# Altium schematic symbol library Connectors.SchLib: 75 symbols (part 3 of 3)
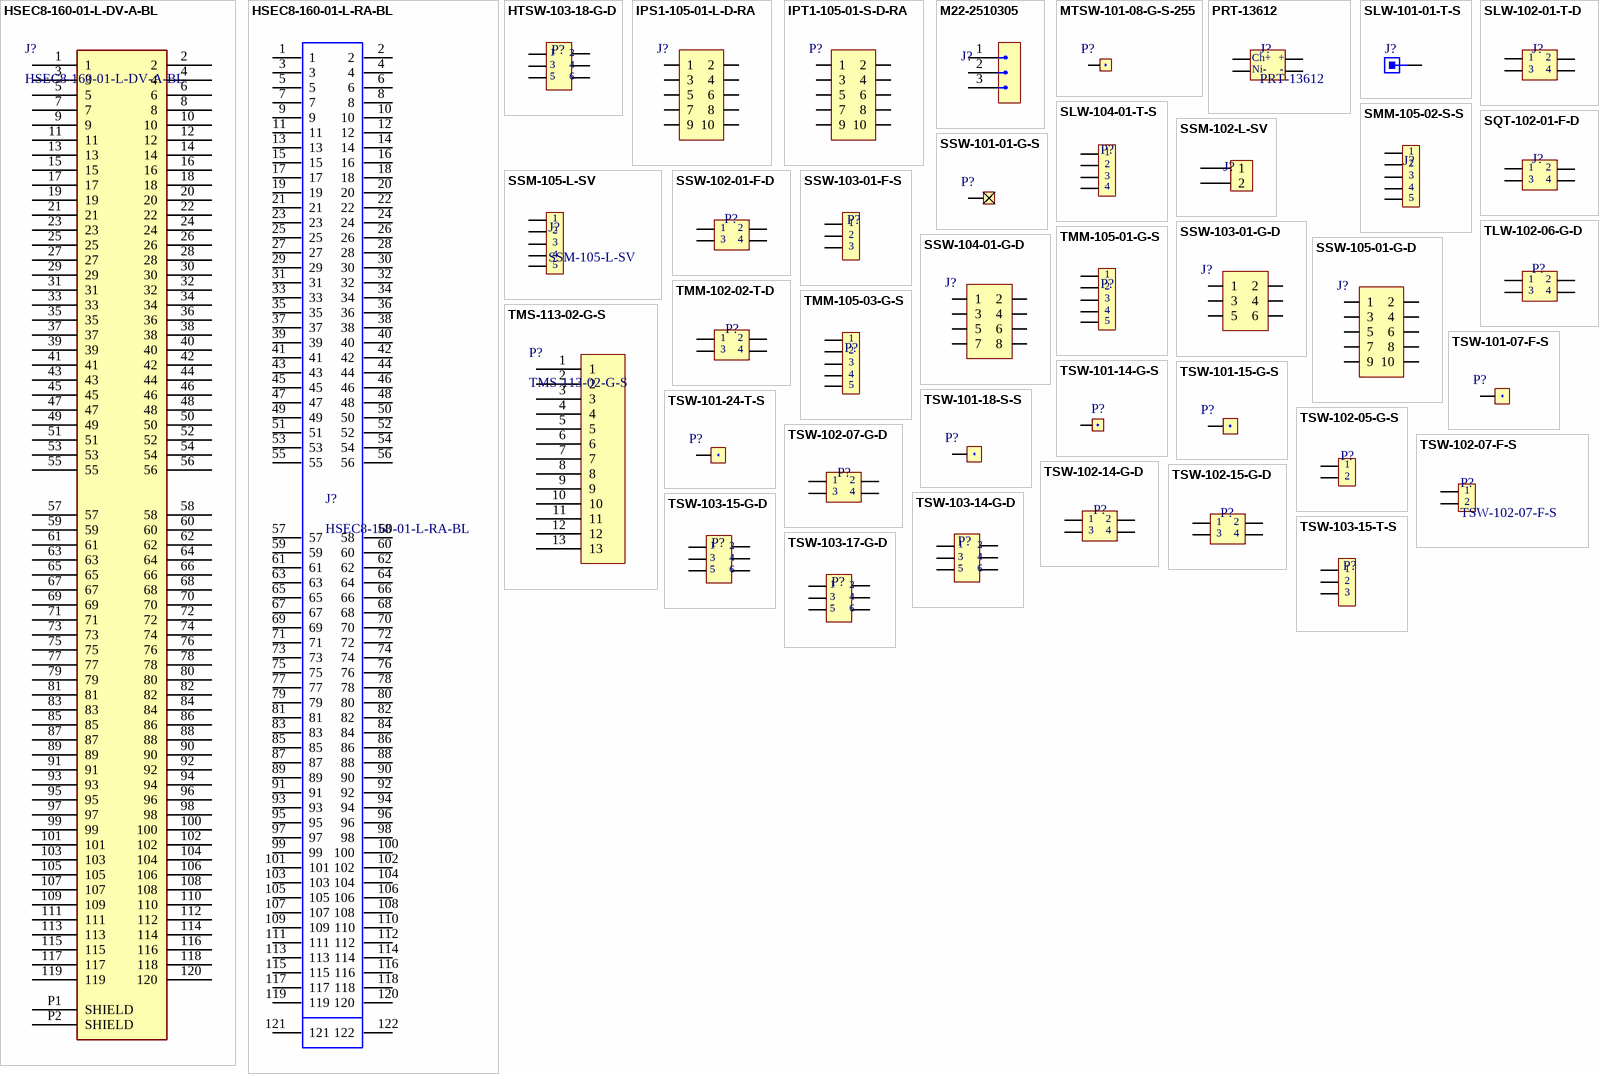
[diagram p4: symbols HSEC8-160-01-L-DV-A-BL to TSW-103-17-G-D]

## TSW-102-05-G-S
designator P?  (value not drawn)
Conn Unshrouded Header HDR 2 POS 2.54mm Solder ST Thru-Hole Automotive Bulk; Manufacturer: Samtec; Number of Contacts: 2; Gender: Male; Max Current Rating: 7.6A; Max Voltage Rating (AC): 550V; Connector Type: Male Pin; Supplier 1: Digi-Key; Manufacturer Part Number: TSW-102-05-G-S; RoHS: Yes; Category: Connectors; Stock 1: 277; Pricing 1: 1=0.28000, 10=0.26500, 25=0.22760, 50=0.19340, 100=0.18580, 250=0.16684, 500=0.15926 (USD); Mount: Through Hole; Contact Plating: Gold; Contact Material: Bronze; Housing Material: Polyester; Housing Color: Black; Color: Black; Min Operating Temperature: -55°C; Max Operating Temperature: 125°C; Number of Rows: 1; Termination: Solder; Packaging: Bulk; Orientation: Straight; Package Quantity: 1; Number of Positions: 2; Length: 5.08mm; Pitch: 2.54mm; Depth: 2.54mm; Contact Mating Length: 0.105inch; Width: 2.54mm; Radiation Hardening: No; Lead Free: Lead Free; REACH SVHC: No SVHC; ComponentLink1URL: http://components.arrow.com/part/dataview/0323_03819665?src-supplier=Arrow+Europe; ComponentLink1Description: http://components.arrow.com/part/dataview/0323_03819665?src-supplier=Arrow+Europe; ComponentLink2URL: http://components.arrow.com/part/dataview/2679278S8183086N1004?src-supplier=Arrow; ComponentLink2Description: http://components.arrow.com/part/dataview/2679278S8183086N1004?src-supplier=Arrow; ComponentLink3URL: http://www.farnell.com/datasheets/2571078.pdf?src-supplier=Farnell; ComponentLink3Description: http://www.farnell.com/datasheets/2571078.pdf?src-supplier=Farnell; ComponentLink4URL: http://www.farnell.com/datasheets/1992055.pdf?src-supplier=Farnell; ComponentLink4Description: http://www.farnell.com/datasheets/1992055.pdf?src-supplier=Farnell; ComponentLink5URL: http://www.samtec.com/ftppub/pdf/htsw_th.pdf?src-supplier=Avnet; ComponentLink5Description: http://www.samtec.com/ftppub/pdf/htsw_th.pdf?src-supplier=Avnet; ComponentLink6URL: http://suddendocs.samtec.com/prints/tsw-xxx-xx-x-x-xx-xxx-footprint.pdf?src-supplier=Digi-Key; ComponentLink6Description: http://suddendocs.samtec.com/prints/tsw-xxx-xx-x-x-xx-xxx-footprint.pdf?src-supplier=Digi-Key; Supplier Part Number 1: SAM1013-02-ND; Supplier 2: Arrow; Stock 2: 61; Pricing 2: 1=0.27130, 10=0.17800, 100=0.14990, 1000=0.13740, 2500=0.13290, 10000=0.12880, 25000=0.12720, 50000=0.12520, 100000=0.12390, 1=0.25100, 12500=0.15970, 25000=0.11010, 125000=0.07830, 250000=0.05120 (USD); Supplier 3: Mouser; Stock 3: 1595; Pricing 3: 1=0.29000, 10=0.20100, 100=0.16500, 1000=0.13800, 2500=0.11800, 10000=0.10600 (USD); Supplier Part Number 2: TSW-102-05-G-S; Supplier Part Number 3: 200-TSW10205GS
footprint TSW-102-05-G-S
pins: 1, 2

## TSW-102-07-F-S
designator P?
Conn Unshrouded Header HDR 2 POS 2.54mm Solder ST Thru-Hole; Manufacturer: Samtec; Number of Contacts: 2; Gender: Male; Max Voltage Rating (AC): 550V; Connector Type: Male Pin; Max Current Rating: 7.6A; Manufacturer Part Number: TSW-102-07-F-S; RoHS: Yes; Category: Connectors; Stock 1: 10739; Pricing 1: 1=0,20000, 10=0,18800, 100=0,13000, 500=0,11000, 1000=0,09000, 5000=0,08000, 10000=0,07250 (USD); Mount: Through Hole; Contact Plating: Gold; Contact Material: Bronze; Housing Color: Black; Housing Material: Polyester; Color: Black; Min Operating Temperature: -55°C; Max Operating Temperature: 125°C; Number of Rows: 1; Termination: Solder; Packaging: Rail/Tube; Orientation: Straight; Number of Positions: 2; Package Quantity: 1; Length: 5.08mm; Pitch: 2.54mm; Contact Mating Length: 0.23inch; Depth: 2.54mm; Radiation Hardening: No; REACH SVHC: No SVHC; ComponentLink1URL: https://datasheet.ciiva.com/739/tsw-xxx-xx-xxx-x-xx-xxx-mkt-739881.pdf?src-supplier=Digi-Key; ComponentLink1Description: https://datasheet.ciiva.com/739/tsw-xxx-xx-xxx-x-xx-xxx-mkt-739881.pdf?src-supplier=Digi-Key; ComponentLink2URL: https://datasheet.ciiva.com/10281/htsw-th-10281262.pdf?src-supplier=Avnet; ComponentLink2Description: https://datasheet.ciiva.com/10281/htsw-th-10281262.pdf?src-supplier=Avnet; ComponentLink3URL: https://datasheet.ciiva.com/16734/htsw-th-16734219.pdf?src-supplier=Avnet+Europe; ComponentLink3Description: https://datasheet.ciiva.com/16734/htsw-th-16734219.pdf?src-supplier=Avnet+Europe; Supplier 1: Digi-Key; Supplier 2: Arrow; Supplier 3: Mouser; Supplier 4: Farnell; Supplier 5: Newark; Supplier Part Number 5: 79P3146; Supplier Part Number 4: 2779661; Supplier Part Number 3: 200-TSW10207FS; Supplier Part Number 2: TSW-102-07-F-S; Supplier Part Number 1: SAM10844-ND
footprint TSW-102-07-F-S (Conn Unshrouded Header HDR 2 POS 2.54mm Solder ST Thru-Hole)
pins: 1, 2

## TSW-102-07-G-D
designator P?  (value not drawn)
Conn Unshrouded Header HDR 4 POS 2.54mm Solder ST Thru-Hole; Manufacturer: Samtec; Number of Contacts: 4; Gender: Male; Max Current Rating: 7.6A; Max Voltage Rating (AC): 550V; Connector Type: Male Pin; Row Spacing: 0.1inch; Supplier 1: Digi-Key; Manufacturer Part Number: TSW-102-07-G-D; RoHS: Yes; Category: Connectors; Stock 1: 1333; Pricing 1: 1=0.43000, 10=0.40800, 25=0.36680, 50=0.32600, 100=0.31240, 250=0.28528, 500=0.27168 (USD); Mount: Through Hole; Contact Plating: Gold; Contact Material: Bronze; Housing Material: Polyester; Housing Color: Black; Color: Black; Min Operating Temperature: -55°C; Max Operating Temperature: 125°C; Number of Rows: 2; Packaging: Bulk; Termination: Solder; Orientation: Straight; Number of Positions: 4; Length: 5.08mm; Pitch: 2.54mm; Depth: 5.08mm; Contact Mating Length: 0.23inch; Width: 5.08mm; Radiation Hardening: No; Lead Free: Lead Free; REACH SVHC: No SVHC; ComponentLink1URL: https://datasheet.ciiva.com/6861/tsw-xxx-xx-xxx-x-xx-xxx-mkt-6861643.pdf?src-supplier=Digi-Key; ComponentLink1Description: https://datasheet.ciiva.com/6861/tsw-xxx-xx-xxx-x-xx-xxx-mkt-6861643.pdf?src-supplier=Digi-Key; ComponentLink2URL: https://datasheet.ciiva.com/36535/38htsw-th-36535307.pdf?src-supplier=Onlinecomponents.com; ComponentLink2Description: https://datasheet.ciiva.com/36535/38htsw-th-36535307.pdf?src-supplier=Onlinecomponents.com; ComponentLink3URL: https://datasheet.ciiva.com/9474/htsw-th-9474972.pdf?src-supplier=Avnet; ComponentLink3Description: https://datasheet.ciiva.com/9474/htsw-th-9474972.pdf?src-supplier=Avnet; Supplier Part Number 1: SAM1028-02-ND; Supplier 2: Mouser; Stock 2: 640; Pricing 2: 1=0.49000, 10=0.37400, 100=0.32700, 500=0.31200, 1000=0.25700, 2500=0.22600 (USD); Package Quantity: 1; ComponentLink4URL: https://datasheet.ciiva.com/737/htsw-xxx-xx-xxx-x-xx-xx-xx-mkt-737892.pdf?src-supplier=Digi-Key; ComponentLink4Description: https://datasheet.ciiva.com/737/htsw-xxx-xx-xxx-x-xx-xx-xx-mkt-737892.pdf?src-supplier=Digi-Key; ComponentLink5URL: https://datasheet.ciiva.com/16733/htsw-th-16733528.pdf?src-supplier=Avnet+Europe; ComponentLink5Description: https://datasheet.ciiva.com/16733/htsw-th-16733528.pdf?src-supplier=Avnet+Europe; ComponentLink6URL: https://datasheet.ciiva.com/10178/htsw-th-10178927.pdf?src-supplier=Avnet; ComponentLink6Description: https://datasheet.ciiva.com/10178/htsw-th-10178927.pdf?src-supplier=Avnet; Supplier 3: Avnet; Pricing 3: 1=0.48930, 10=0.29210, 30=0.28980, 50=0.28750, 100=0.28520 (USD); Supplier Part Number 2: 200-HTSW10207GD; Supplier Part Number 3: HTSW-102-07-G-D
footprint TSW-102-07-G-D
pins: 1, 2, 3, 4

## TSW-102-14-G-D
designator P?  (value not drawn)
Conn Unshrouded Header HDR 4 POS 2.54mm Solder ST Thru-Hole; Manufacturer: Samtec; Number of Contacts: 4; Gender: Male; Max Voltage Rating (AC): 550V; Max Current Rating: 7.6A; Connector Type: Male Pin; Row Spacing: 0.1inch; Supplier 1: Mouser; Manufacturer Part Number: TSW-102-14-G-D; RoHS: Yes; Category: Connectors; Stock 1: 3459; Pricing 1: 1=0.46000, 10=0.34700, 100=0.30400, 500=0.29000, 1000=0.23900, 2500=0.21000 (USD); Mount: Through Hole; Contact Plating: Gold; Contact Material: Bronze; Color: Black; Housing Material: Polyester; Housing Color: Black; Min Operating Temperature: -55°C; Max Operating Temperature: 125°C; Termination: Solder; Number of Rows: 2; Packaging: Bulk; Number of Positions: 4; Package Quantity: 1; Orientation: Straight; Length: 5.08mm; Pitch: 2.54mm; Contact Mating Length: 0.32inch; Depth: 5.08mm; Width: 5.08mm; Radiation Hardening: No; REACH SVHC: No SVHC; Lead Free: Lead Free; ComponentLink1URL: https://datasheet.ciiva.com/10189/htsw-th-10189928.pdf?src-supplier=Avnet; ComponentLink1Description: https://datasheet.ciiva.com/10189/htsw-th-10189928.pdf?src-supplier=Avnet; ComponentLink2URL: https://datasheet.ciiva.com/16728/htsw-th-16728329.pdf?src-supplier=Avnet+Europe; ComponentLink2Description: https://datasheet.ciiva.com/16728/htsw-th-16728329.pdf?src-supplier=Avnet+Europe; ComponentLink3URL: https://datasheet.ciiva.com/36535/38htsw-th-36535309.pdf?src-supplier=Onlinecomponents.com; ComponentLink3Description: https://datasheet.ciiva.com/36535/38htsw-th-36535309.pdf?src-supplier=Onlinecomponents.com; Supplier Part Number 1: 200-TSW10214GD; Supplier 2: Digi-Key; Stock 2: 3947; Pricing 2: 1=0.45000, 10=0.41800, 25=0.37600, 50=0.33400, 100=0.32020, 250=0.29232, 500=0.27840 (USD); Supplier 3: Arrow; Stock 3: 77; Pricing 3: 1=0.34480, 10=0.30040, 25=0.29740, 50=0.29130, 100=0.28280, 1=0.37300, 6250=0.24370, 12500=0.17680, 62500=0.15120, 125000=0.09940 (USD); Supplier Part Number 2: SAM1052-02-ND; Supplier Part Number 3: TSW-102-14-G-D
footprint TSW-102-14-G-D
pins: 1, 2, 3, 4

## TSW-102-15-G-D
designator P?  (value not drawn)
SAMTEC         TSW-102-15-G-D             Board-To-Board Connector, Vertical, TSW Series, 4 Contacts, Header, 2.54 mm, Through Hole, 2 Rows; Gender: Male; Number of Contacts: 4; Max Voltage Rating (AC): 550V; Max Current Rating: 7.6A; Pitch: 2.54mm; Supplier 1: Digi-Key; Manufacturer: Samtec; Manufacturer Part Number: TSW-102-15-G-D; RoHS: Yes; Category: Connectors; Stock 1: 148; Pricing 1: 1=0.52000, 10=0.48600, 100=0.37260, 500=0.32400, 1000=0.26730, 5000=0.23490, 10000=0.21870 (USD); Housing Material: Polyester; Housing Color: Black; Contact Plating: Gold; Contact Material: Bronze; Min Operating Temperature: -55°C; Max Operating Temperature: 125°C; Orientation: Straight; Termination: Solder; Number of Rows: 2; Packaging: Bulk; Length: 5.08mm; Depth: 5.08mm; Radiation Hardening: No; REACH SVHC: No SVHC; ComponentLink1URL: http://www.farnell.com/datasheets/1992055.pdf?src-supplier=Farnell; ComponentLink1Description: http://www.farnell.com/datasheets/1992055.pdf?src-supplier=Farnell; ComponentLink2URL: http://components.arrow.com/part/dataview/0323_03818426?src-supplier=Arrow+Europe; ComponentLink2Description: http://components.arrow.com/part/dataview/0323_03818426?src-supplier=Arrow+Europe; ComponentLink3URL: http://www.samtec.com/ftppub/pdf/htsw_th.pdf?src-supplier=Avnet; ComponentLink3Description: http://www.samtec.com/ftppub/pdf/htsw_th.pdf?src-supplier=Avnet; Supplier Part Number 1: TSW-102-15-G-D-ND; Supplier 2: Mouser; Stock 2: 378; Pricing 2: 1=0.51000, 10=0.38800, 100=0.34000, 500=0.32400, 1000=0.26700, 2500=0.23400 (USD); Supplier 3: Avnet; Pricing 3: 1=0.38862, 10=0.36567, 30=0.35611, 50=0.33938, 100=0.32504 (USD); Supplier Part Number 2: 200-TSW10215GD; Supplier Part Number 3: TSW-102-15-G-D
footprint TSW-102-15-G-D-ND
pins: 1, 2, 3, 4

## TSW-103-14-G-D
designator P?  (value not drawn)
Conn Unshrouded Header HDR 6 POS 2.54mm Solder ST Thru-Hole Automotive Bulk; Manufacturer: Samtec; Number of Contacts: 6; Gender: Male; Connector Type: Male Pin; Max Voltage Rating (AC): 550V; Max Current Rating: 7.6A; Row Spacing: 0.1inch; Supplier 1: Mouser; Manufacturer Part Number: TSW-103-14-G-D; RoHS: Yes; Category: Headers and Wire Housings; Stock 1: 4030; Pricing 1: 1=0.69000, 10=0.52000, 100=0.45500, 500=0.43400, 1000=0.35800, 2500=0.31400 (USD); Mount: Through Hole; Contact Plating: Gold; Contact Material: Bronze; Color: Black; Housing Color: Black; Housing Material: Polyester; Min Operating Temperature: -55°C; Max Operating Temperature: 125°C; Number of Rows: 2; Packaging: Bulk; Termination: Solder; Number of Positions: 6; Orientation: Straight; Length: 7.62mm; Pitch: 2.54mm; Depth: 5.08mm; Width: 5.08mm; Contact Mating Length: 0.32inch; Radiation Hardening: No; REACH SVHC: No SVHC; Lead Free: Lead Free; ComponentLink1URL: https://datasheet.ciiva.com/29947/htsw-th-29947782.pdf?src-supplier=Avnet; ComponentLink1Description: https://datasheet.ciiva.com/29947/htsw-th-29947782.pdf?src-supplier=Avnet; ComponentLink2URL: https://datasheet.ciiva.com/6861/tsw-xxx-xx-xxx-x-xx-xxx-mkt-6861660.pdf?src-supplier=Digi-Key; ComponentLink2Description: https://datasheet.ciiva.com/6861/tsw-xxx-xx-xxx-x-xx-xxx-mkt-6861660.pdf?src-supplier=Digi-Key; Supplier Part Number 1: 200-TSW10314GD; Supplier 2: Digi-Key; Stock 2: 219; Pricing 2: 1=0.67000, 10=0.62600, 25=0.56360, 50=0.50120, 100=0.48020, 250=0.43848, 500=0.41760 (USD); Supplier 3: Arrow; Stock 3: 58; Pricing 3: 1=0.51480, 10=0.44070, 100=0.42760, 250=0.42350, 1=0.36720, 4167=0.30960, 8334=0.24980, 41667=0.21640, 83334=0.14270 (USD); Supplier 4: Avnet; Stock 4: 16; Pricing 4: 1=0.49678, 10=0.42446, 30=0.42361, 50=0.42271, 100=0.42176 (USD); Supplier Part Number 2: SAM1052-03-ND; Supplier Part Number 3: TSW-103-14-G-D; Supplier Part Number 4: TSW-103-14-G-D
footprint TSW-103-14-G-D
pins: 1, 2, 3, 4, 5, 6

## TSW-103-15-G-D
designator P?  (value not drawn)
.025" SQ. TERMINAL STRIPS; Manufacturer: Samtec; Number of Contacts: 6; Gender: Male; Max Voltage Rating (AC): 550V; Max Current Rating: 7.6A; Pitch: 2.54mm; Supplier 1: Digi-Key; Manufacturer Part Number: TSW-103-15-G-D; RoHS: Yes; Category: Headers and Wire Housings; Stock 1: 480; Pricing 1: 1=0.78000, 10=0.73200, 100=0.56120, 500=0.48800, 1000=0.40260, 5000=0.35380, 10000=0.32940 (USD); Contact Plating: Gold; Contact Material: Bronze; Housing Material: Polyester; Housing Color: Black; Min Operating Temperature: -55°C; Max Operating Temperature: 125°C; Termination: Solder; Number of Rows: 2; Packaging: Bulk; Orientation: Straight; Length: 7.62mm; Row Spacing: 2.54mm; Depth: 5.08mm; Radiation Hardening: No; REACH SVHC: No SVHC; ComponentLink1URL: https://datasheet.ciiva.com/16723/htsw-th-16723063.pdf?src-supplier=Avnet+Europe; ComponentLink1Description: https://datasheet.ciiva.com/16723/htsw-th-16723063.pdf?src-supplier=Avnet+Europe; ComponentLink2URL: https://datasheet.ciiva.com/29947/htsw-th-29947802.pdf?src-supplier=Avnet; ComponentLink2Description: https://datasheet.ciiva.com/29947/htsw-th-29947802.pdf?src-supplier=Avnet; Supplier Part Number 1: SAM12306-ND; Supplier 2: Mouser; Stock 2: 570; Pricing 2: 1=0.78000, 10=0.58500, 100=0.51200, 500=0.48800, 1000=0.40200, 2500=0.35300 (USD); Supplier 3: Avnet; Pricing 3: 1=0.76330, 10=0.71550, 30=0.71464, 50=0.71372, 100=0.54645 (USD); Supplier Part Number 2: 200-TSW10315GD; Supplier Part Number 3: TSW-103-15-G-D
footprint TSW-103-15-G-D
pins: 1, 2, 3, 4, 5, 6

## TSW-103-15-T-S
designator P?  (value not drawn)
Conn Unshrouded Header HDR 3 POS 2.54mm Solder ST Thru-Hole Automotive Bulk; Manufacturer: Samtec; Max Current Rating: 7.6A; Gender: Male; Number of Contacts: 3; Max Voltage Rating (AC): 550V; Supplier 1: Digi-Key; Manufacturer Part Number: TSW-103-15-T-S; RoHS: Yes; Category: Connectors; Stock 1: 2234; Pricing 1: 1=0.26000, 10=0.24800, 100=0.17160, 500=0.14520, 1000=0.11880, 5000=0.10560, 10000=0.09570 (USD); Contact Material: Bronze; Contact Plating: Tin; Housing Color: Black; Housing Material: Polyester; Min Operating Temperature: -55°C; Max Operating Temperature: 105°C; Number of Rows: 1; Packaging: Bulk; Orientation: Straight; Termination: Solder; Length: 7.62mm; Pitch: 2.54mm; Depth: 2.54mm; Radiation Hardening: No; REACH SVHC: No SVHC; ComponentLink1URL: http://www.farnell.com/datasheets/1992055.pdf?src-supplier=Farnell; ComponentLink1Description: http://www.farnell.com/datasheets/1992055.pdf?src-supplier=Farnell; ComponentLink2URL: http://components.arrow.com/part/dataview/0323_01320352?src-supplier=Arrow+Europe; ComponentLink2Description: http://components.arrow.com/part/dataview/0323_01320352?src-supplier=Arrow+Europe; ComponentLink3URL: http://components.arrow.com/part/dataview/2678695S3193677N1004?src-supplier=Arrow; ComponentLink3Description: http://components.arrow.com/part/dataview/2678695S3193677N1004?src-supplier=Arrow; ComponentLink4URL: http://www.samtec.com/ftppub/pdf/htsw_th.pdf?src-supplier=Avnet+Europe; ComponentLink4Description: http://www.samtec.com/ftppub/pdf/htsw_th.pdf?src-supplier=Avnet+Europe; Supplier Part Number 1: SAM12307-ND; Supplier 2: Arrow; Stock 2: 1000; Pricing 2: 1=0.24400, 10=0.18300, 100=0.13980, 500=0.11160, 1000=0.10020, 1=0.16120, 10=0.11410, 100=0.09740, 1=0.25800, 8334=0.15940, 16667=0.10680, 83334=0.06840, 166667=0.04480 (USD); Supplier 3: Mouser; Stock 3: 1586; Pricing 3: 1=0.26000, 10=0.18400, 100=0.14500, 1000=0.11800, 2500=0.10500, 10000=0.09500 (USD); Supplier Part Number 2: TSW-103-15-T-S; Supplier Part Number 3: 200-TSW10315TS
footprint SAM12307-ND
pins: 1, 2, 3

## TSW-103-17-G-D
designator P?  (value not drawn)
SAMTEC         TSW-103-17-G-D             Board-To-Board Connector, Vertical, TSW Series, 6 Contacts, Header, 2.54 mm, Through Hole, 2 Rows; Number of Contacts: 6; Gender: Male; Connector Type: Male Pin; Pitch: 0.1inch; Supplier 1: Digi-Key; Manufacturer: Samtec; Manufacturer Part Number: TSW-103-17-G-D; RoHS: Yes; Category: Headers and Wire Housings; Stock 1: 374; Pricing 1: 1=0.80000, 10=0.75000, 25=0.67440, 50=0.59960, 100=0.57460, 250=0.52468, 500=0.49968 (USD); Mount: Through Hole; Contact Plating: Gold; Contact Material: Bronze; Housing Material: Plastic; Housing Color: Black; Color: Black; Termination: Solder; Number of Rows: 2; Packaging: Bulk; Number of Positions: 6; Package Quantity: 1; Length: 7.62mm; Width: 5.08mm; Height: 2.54mm; Row Spacing: 0.1inch; Contact Mating Length: 0.62inch; Radiation Hardening: No; REACH SVHC: No SVHC; Lead Free: Lead Free; ComponentLink1URL: https://datasheet.ciiva.com/48560/htsw-th-48560119.pdf?src-supplier=Avnet; ComponentLink1Description: https://datasheet.ciiva.com/48560/htsw-th-48560119.pdf?src-supplier=Avnet; Supplier Part Number 1: SAM1060-03-ND
footprint TSW-103-17-G-D
pins: 1, 2, 3, 4, 5, 6

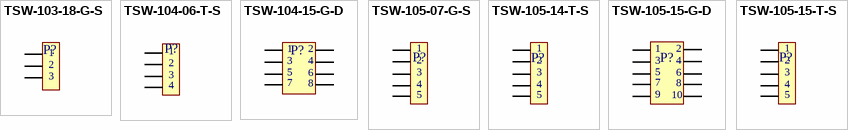
[diagram p2: symbols TSW-103-18-G-S to TSW-105-15-T-S]

## TSW-103-18-G-S
designator P?  (value not drawn)
Conn Unshrouded Header HDR 3 POS 2.54mm Solder ST Thru-Hole; Manufacturer: Samtec; Number of Contacts: 3; Gender: Male; Supplier 1: Digi-Key; Manufacturer Part Number: TSW-103-18-G-S; RoHS: Yes; Category: Connectors; Stock 1: 437; Pricing 1: 1=0.43000 (USD); Mount: Through Hole; Contact Plating: Gold; Contact Material: Bronze; Termination: Solder; Number of Rows: 1; Pitch: 2.54mm; Radiation Hardening: No; REACH SVHC: No SVHC; ComponentLink1URL: http://www.farnell.com/datasheets/1992055.pdf?src-supplier=Farnell; ComponentLink1Description: http://www.farnell.com/datasheets/1992055.pdf?src-supplier=Farnell; ComponentLink2URL: http://www.samtec.com/ftppub/pdf/htsw_th.pdf?src-supplier=Avnet+Europe; ComponentLink2Description: http://www.samtec.com/ftppub/pdf/htsw_th.pdf?src-supplier=Avnet+Europe; Supplier Part Number 1: TSW-103-18-G-S-ND; Supplier 2: Avnet; Pricing 2: 1=0.32358, 10=0.30447, 30=0.29651, 50=0.28258, 100=0.27064 (USD); Supplier 3: Newark; Pricing 3: 1=0.43000, 10=0.39900, 25=0.35000, 50=0.31100, 100=0.29900, 250=0.27200, 500=0.26000 (USD); Supplier Part Number 2: TSW-103-18-G-S; Supplier Part Number 3: 79P4422
footprint TSW-103-18-G-S (Alojamientos de cables y cabecera .100" Terminal Strip)
pins: 1, 2, 3

## TSW-104-06-T-S
designator P?  (value not drawn)
CONN HEADER 4POS .100" SNGL TIN; Manufacturer: Samtec; Max Current Rating: 7.6A; Connector Type: Male Pin; Number of Positions: 4; Gender: Male; Max Voltage Rating (AC): 550V; Pitch: 2.54mm; System: Connector; Supplier 1: Digi-Key; Manufacturer Part Number: TSW-104-06-T-S; RoHS: Yes; Category: Connectors; Stock 1: 4831; Pricing 1: 1=0.30000, 10=0.28600, 25=0.24520, 50=0.20840, 100=0.20020, 250=0.17976, 500=0.17158 (USD); Mount: Through Hole; Color: Black; Contact Material: Bronze; Housing Color: Black; Housing Material: Polyester; Contact Plating: Tin; Min Operating Temperature: -55°C; Max Operating Temperature: 105°C; Packaging: Bulk; Orientation: Straight; Termination: Solder; Number of Contacts: 4; Number of Rows: 1; Length: 10.16mm; Contact Mating Length: 0.105inch; Width: 2.54mm; Depth: 2.54mm; Radiation Hardening: No; Lead Free: Lead Free; REACH SVHC: No SVHC; ComponentLink1URL: https://datasheet.ciiva.com/16728/htsw-th-16728342.pdf?src-supplier=Avnet+Europe; ComponentLink1Description: https://datasheet.ciiva.com/16728/htsw-th-16728342.pdf?src-supplier=Avnet+Europe; Supplier Part Number 1: SAM1027-04-ND; Supplier 2: Mouser; Stock 2: 2604; Pricing 2: 1=0.31000, 10=0.21600, 100=0.17800, 1000=0.14800, 2500=0.12700, 10000=0.11400 (USD); Supplier 3: Avnet; Pricing 3: 1=0.20325, 10=0.19125, 30=0.18625, 50=0.17750, 100=0.17000 (USD); Supplier Part Number 2: 200-TSW10406TS; Supplier Part Number 3: TSW-104-06-T-S
footprint TSW-104-06-T-S
pins: 1, 2, 3, 4

## TSW-104-15-G-D
designator P?  (value not drawn)
SAMTEC         TSW-104-15-G-D             Board-To-Board Connector, Vertical, TSW Series, 8 Contacts, Header, 2.54 mm, Through Hole, 2 Rows; Number of Contacts: 8; Gender: Male; Max Voltage Rating (AC): 550V; Max Current Rating: 7.6A; Pitch: 2.54mm; Supplier 1: Digi-Key; Manufacturer: Samtec; Manufacturer Part Number: TSW-104-15-G-D; RoHS: Yes; Category: Connectors; Stock 1: 33; Pricing 1: 1=0.94000, 10=0.82900, 100=0.71500, 500=0.58500, 1000=0.52000, 5000=0.45500, 10000=0.43225 (USD); Contact Plating: Gold; Contact Material: Bronze; Housing Color: Black; Housing Material: Polyester; Min Operating Temperature: -55°C; Max Operating Temperature: 125°C; Number of Rows: 2; Termination: Solder; Packaging: Bulk; Orientation: Straight; Length: 10.16mm; Depth: 5.08mm; Radiation Hardening: No; REACH SVHC: No SVHC; ComponentLink1URL: http://www.farnell.com/datasheets/1992055.pdf?src-supplier=Farnell; ComponentLink1Description: http://www.farnell.com/datasheets/1992055.pdf?src-supplier=Farnell; ComponentLink2URL: http://components.arrow.com/part/dataview/0323_01320648?src-supplier=Arrow+Europe; ComponentLink2Description: http://components.arrow.com/part/dataview/0323_01320648?src-supplier=Arrow+Europe; ComponentLink3URL: http://components.arrow.com/part/dataview/2678257S8321538N1004?src-supplier=Arrow; ComponentLink3Description: http://components.arrow.com/part/dataview/2678257S8321538N1004?src-supplier=Arrow; ComponentLink4URL: http://www.samtec.com/ftppub/pdf/htsw_th.pdf?src-supplier=Avnet; ComponentLink4Description: http://www.samtec.com/ftppub/pdf/htsw_th.pdf?src-supplier=Avnet; ComponentLink5URL: http://www.samtec.com/ftppub/pdf/htsw_th.pdf?src-supplier=Avnet+Europe; ComponentLink5Description: http://www.samtec.com/ftppub/pdf/htsw_th.pdf?src-supplier=Avnet+Europe; ComponentLink6URL: http://suddendocs.samtec.com/prints/tsw-xxx-xx-x-x-xx-xxx-footprint.pdf?src-supplier=Digi-Key; ComponentLink6Description: http://suddendocs.samtec.com/prints/tsw-xxx-xx-x-x-xx-xxx-footprint.pdf?src-supplier=Digi-Key; Supplier Part Number 1: SAM12313-ND
footprint TSW-104-15-G-D
pins: 1, 2, 3, 4, 5, 6, 7, 8

## TSW-105-07-G-S
designator P?  (value not drawn)
SAMTEC - TSW-105-07-G-S - Board-To-Board Connector, 2.54 mm, 5 Contacts, Header, TSW Series, Through Hole, 1 Rows; Number of Contacts: 5; Gender: Male; Max Current Rating: 7.6A; Max Voltage Rating (AC): 550V; Connector Type: Male Pin; Pitch: 2.54mm; Supplier 1: Digi-Key; Manufacturer: Samtec; Manufacturer Part Number: TSW-105-07-G-S; RoHS: Yes; Category: Headers and Wire Housings; Stock 1: 1466; Pricing 1: 1=0.55000, 10=0.51100, 25=0.46000, 50=0.40900, 100=0.39190, 250=0.35784, 500=0.34080 (USD); Mount: Through Hole; Contact Plating: Gold; Contact Material: Bronze; Housing Color: Black; Housing Material: Polyester; Color: Black; Min Operating Temperature: -55°C; Max Operating Temperature: 125°C; Termination: Solder; Number of Rows: 1; Packaging: Bulk; Orientation: Straight; Package Quantity: 1; Number of Positions: 5; Length: 12.7mm; Depth: 2.54mm; Contact Mating Length: 0.23inch; Width: 2.54mm; Radiation Hardening: No; Lead Free: Lead Free; REACH SVHC: No SVHC; ComponentLink1URL: https://datasheet.ciiva.com/6888/tsw-xxx-xx-xxx-x-xx-xxx-mkt-6888902.pdf?src-supplier=Digi-Key; ComponentLink1Description: https://datasheet.ciiva.com/6888/tsw-xxx-xx-xxx-x-xx-xxx-mkt-6888902.pdf?src-supplier=Digi-Key; ComponentLink2URL: https://datasheet.ciiva.com/16724/htsw-th-16724458.pdf?src-supplier=Avnet+Europe; ComponentLink2Description: https://datasheet.ciiva.com/16724/htsw-th-16724458.pdf?src-supplier=Avnet+Europe; ComponentLink3URL: https://datasheet.ciiva.com/48561/htsw-th-48561324.pdf?src-supplier=Avnet; ComponentLink3Description: https://datasheet.ciiva.com/48561/htsw-th-48561324.pdf?src-supplier=Avnet; Supplier Part Number 1: SAM1029-05-ND; Supplier 2: Arrow; Stock 2: 593; Pricing 2: 1=0.48290, 10=0.45480, 25=0.41790, 50=0.37990, 100=0.35640, 250=0.32520, 500=0.26580, 1=0.54430, 10=0.50640, 25=0.45680, 50=0.40690, 100=0.37720, 250=0.33800, 500=0.31720 (USD); Supplier 3: Mouser; Stock 3: 1209; Pricing 3: 1=0.56000, 10=0.42400, 100=0.37100, 500=0.35400, 1000=0.29200, 2500=0.25600 (USD); Supplier Part Number 2: TSW-105-07-G-S; Supplier Part Number 3: 200-TSW10507GS
footprint TSW-105-07-G-S
pins: 1, 2, 3, 4, 5

## TSW-105-14-T-S
designator P?  (value not drawn)
CONN HEADER 5POS .100" SNGL TIN; Manufacturer: Samtec; Gender: Male; Number of Contacts: 5; Connector Type: Male Pin; Max Voltage Rating (AC): 550V; Max Current Rating: 7.6A; Pitch: 2.54mm; Supplier 1: Digi-Key; Manufacturer Part Number: TSW-105-14-T-S; RoHS: Yes; Category: Connectors; Stock 1: 1870; Pricing 1: 1=0.35000, 10=0.33000, 25=0.28280, 50=0.24060, 100=0.23110, 250=0.20752, 500=0.19808 (USD); Mount: Through Hole; Contact Plating: Tin; Contact Material: Bronze; Color: Black; Housing Color: Black; Housing Material: Polyester; Min Operating Temperature: -55°C; Max Operating Temperature: 105°C; Number of Rows: 1; Packaging: Bulk; Termination: Solder; Number of Positions: 5; Orientation: Straight; Package Quantity: 1; Length: 12.7mm; Depth: 2.54mm; Width: 2.54mm; Contact Mating Length: 0.32inch; Radiation Hardening: No; Lead Free: Lead Free; REACH SVHC: No SVHC; ComponentLink1URL: https://datasheet.ciiva.com/6889/tsw-xxx-xx-xxx-x-xx-xxx-mkt-6889661.pdf?src-supplier=Digi-Key; ComponentLink1Description: https://datasheet.ciiva.com/6889/tsw-xxx-xx-xxx-x-xx-xxx-mkt-6889661.pdf?src-supplier=Digi-Key; Supplier Part Number 1: SAM1059-05-ND
footprint TSW-105-14-T-S
pins: 1, 2, 3, 4, 5

## TSW-105-15-G-D
designator P?  (value not drawn)
SAMTEC         TSW-105-15-G-D             Board-To-Board Connector, Vertical, TSW Series, 10 Contacts, Header, 2.54 mm, Through Hole, 2 Rows; Number of Contacts: 10; Gender: Male; Max Current Rating: 7.6A; Max Voltage Rating (AC): 550V; Pitch: 2.54mm; Supplier 1: Digi-Key; Manufacturer: Samtec; Manufacturer Part Number: TSW-105-15-G-D; RoHS: Yes; Category: Connectors; Stock 1: 187; Pricing 1: 1=1.18000, 10=1.03500, 100=0.89320, 500=0.73080, 1000=0.64960, 5000=0.56840, 10000=0.53998 (USD); Contact Plating: Gold; Contact Material: Bronze; Housing Color: Black; Housing Material: Polyester; Min Operating Temperature: -55°C; Max Operating Temperature: 125°C; Number of Rows: 2; Termination: Solder; Packaging: Bulk; Orientation: Vertical; Length: 12.7mm; Depth: 5.08mm; Radiation Hardening: No; REACH SVHC: No SVHC; ComponentLink1URL: https://datasheet.ciiva.com/16713/htsw-th-16713231.pdf?src-supplier=Avnet+Europe; ComponentLink1Description: https://datasheet.ciiva.com/16713/htsw-th-16713231.pdf?src-supplier=Avnet+Europe; Supplier Part Number 1: SAM10340-ND
footprint TSW-105-15-G-D
pins: 1, 2, 3, 4, 5, 6, 7, 8, 9, 10

## TSW-105-15-T-S
designator P?  (value not drawn)
Conn Unshrouded Header HDR 5 POS 2.54mm Solder ST Thru-Hole; Manufacturer: Samtec; Number of Contacts: 5; Gender: Male; Max Current Rating: 7.6A; Max Voltage Rating (AC): 550V; Supplier 1: Digi-Key; Manufacturer Part Number: TSW-105-15-T-S; RoHS: Yes; Category: Connectors; Stock 1: 2247; Pricing 1: 1=0.41000, 10=0.38500, 100=0.26950, 500=0.23100, 1000=0.19250, 5000=0.16500, 10000=0.15400 (USD); Mount: Through Hole; Contact Plating: Tin; Contact Material: Bronze; Housing Material: Polyester; Housing Color: Black; Min Operating Temperature: -55°C; Max Operating Temperature: 105°C; Number of Rows: 1; Termination: Solder; Packaging: Bulk; Orientation: Straight; Length: 12.7mm; Pitch: 2.54mm; Depth: 2.54mm; Radiation Hardening: No; REACH SVHC: No SVHC; ComponentLink1URL: https://datasheet.ciiva.com/29947/htsw-th-29947976.pdf?src-supplier=Avnet; ComponentLink1Description: https://datasheet.ciiva.com/29947/htsw-th-29947976.pdf?src-supplier=Avnet; ComponentLink2URL: https://datasheet.ciiva.com/16724/htsw-th-16724535.pdf?src-supplier=Avnet+Europe; ComponentLink2Description: https://datasheet.ciiva.com/16724/htsw-th-16724535.pdf?src-supplier=Avnet+Europe; Supplier Part Number 1: SAM15374-ND
footprint TSW-105-15-T-S
pins: 1, 2, 3, 4, 5